# Altium schematic symbol library LMB12S-TP.SchLib: 1 symbol
Pins are listed as number, name and electrical type; pins without a type are passive.

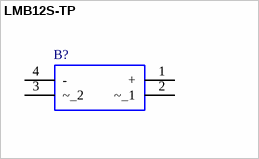
[diagram p0: symbol LMB12S-TP]

## LMB12S-TP
designator B?
Bridge Rectifiers 1A 20Vr 14Vrms 20V 30A Ifsm; Manufacturer_Name: Micro Commercial Components (MCC); Geometry.Height: 1.71mm; Mouser Part Number: 833-LMB12S-TP; Mouser Price/Stock: https://www.mouser.co.uk/ProductDetail/Micro-Commercial-Components-MCC/LMB12S-TP?qs=P1JMDcb91o7e1QBloAQ5ig%3D%3D; Manufacturer_Part_Number: LMB12S-TP; Datasheet Link: *
footprint LMB12STP
pins: 1 +, 2 ~_1, 3 ~_2, 4 -